# Altium schematic symbol library BC547.SchLib: 1 symbol
Pins are listed as number, name and electrical type; pins without a type are passive.

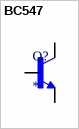
[diagram p0: symbol BC547]

## BC547
designator Q?
NPN Transistor; MP: BC547*; MF: {'manufacturer': u'ON'}; Availability: Unavailable; Value: *; Price: None; Package: None
footprint TO92
pins: 1 C, 2 B, 3 E